# Altium schematic symbol library Connectors.SchLib: 60 symbols (part 2 of 3)
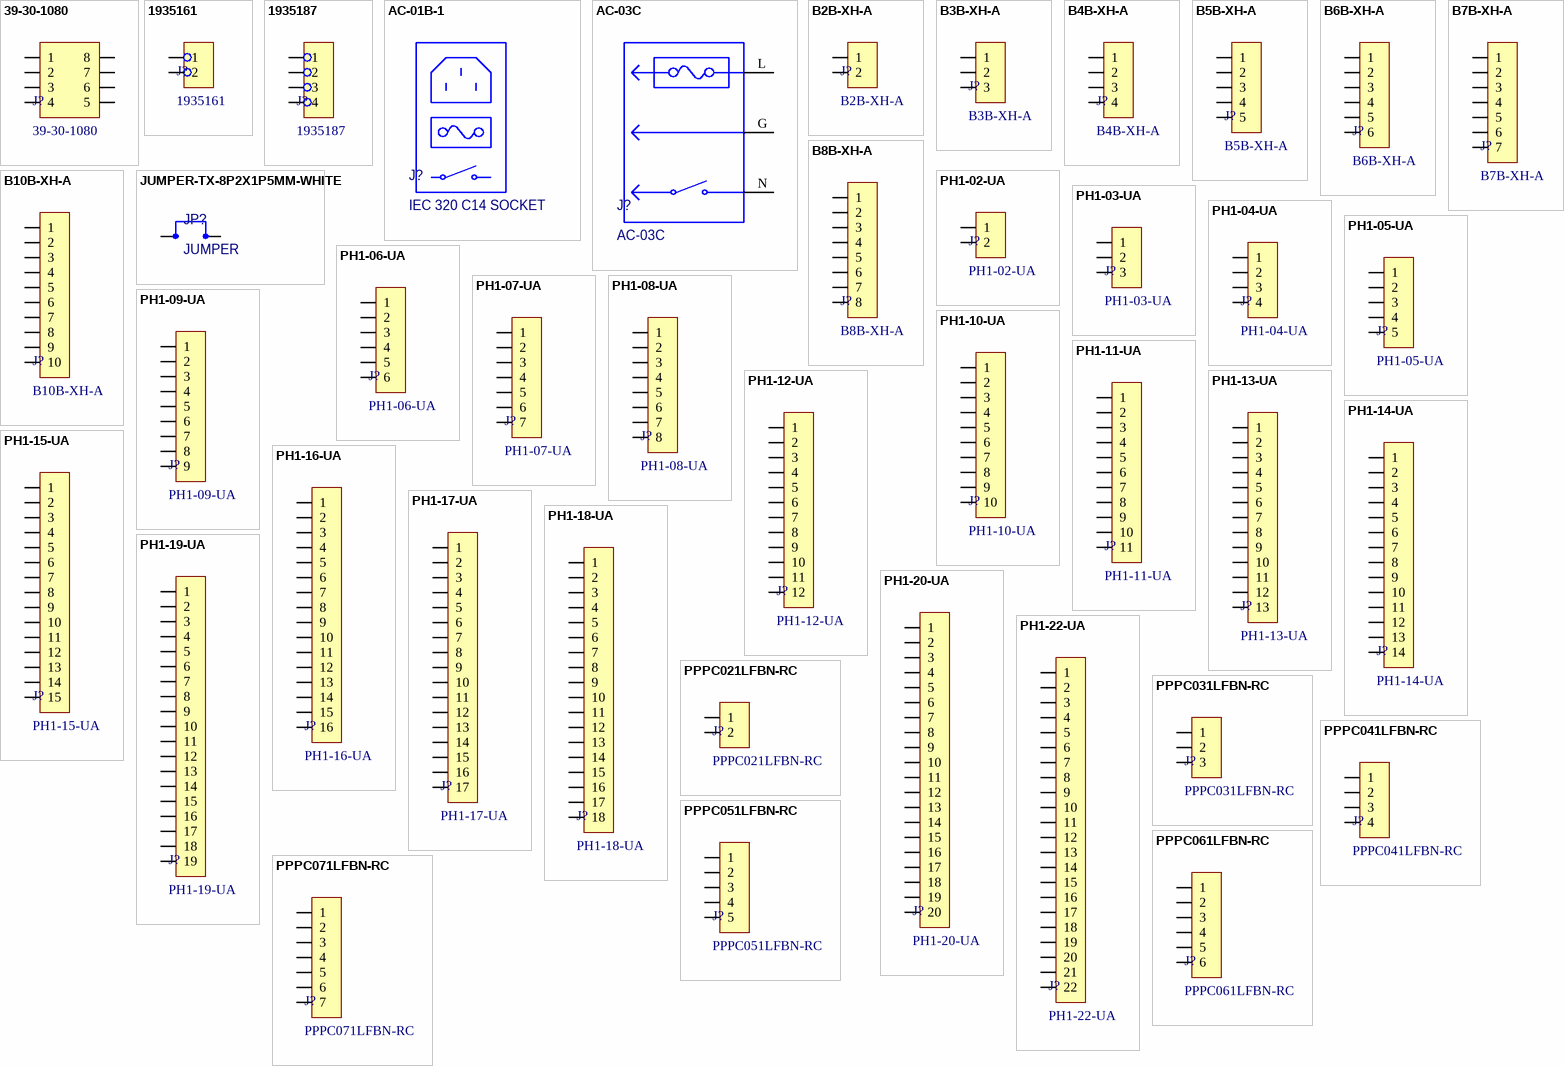
[diagram p2: symbols 39-30-1080 to PPPC071LFBN-RC]

## PH1-17-UA
designator J?
CONN HEADER VERT 17POS 2.54MM; Manufacturer: Adam Tech; Contact Resistance: 20mΩ; Current Rating: 3A; Insulation Resistance: 5GΩ; Supplier: DigiKey; Supplier Part Number: 2057-PH1-17-UA-ND; Manufacturer Part Number: PH1-17-UA; RoHS: Compliant; Category: Card Edge Connectors; Stock: 830; Pricing: 1=0.21, 10=0.182, 100=0.1546, 500=0.13796 (USD); Contact Gender: Male; Contact Material: Brass; Lifecycle Status: Production; Pins: 17; Number of Rows: 1; REACH SVHC: Yes; Schedule B: 8536694040, 8536694040|8536694040|8536694040|8536694040|8536694040; Terminal Pitch: 2.54mm; ComponentLink1URL: https://datasheet.octopart.com:443/PH1-17-UA-Adam-Tech-datasheet-21182886.pdf?src-supplier=IHS; ComponentLink1Description: https://datasheet.octopart.com:443/PH1-17-UA-Adam-Tech-datasheet-21182886.pdf?src-supplier=IHS; ComponentLink2URL: https://datasheet.octopart.com:443/PH1-17-UA-Adam-Tech-datasheet-189096092.pdf?src-supplier=Master+Electronics; ComponentLink2Description: https://datasheet.octopart.com:443/PH1-17-UA-Adam-Tech-datasheet-189096092.pdf?src-supplier=Master+Electronics; ComponentLink3URL: http://sigma.octopart.com:80/reach_statement/Adam-Tech-company-23.pdf?src-supplier=Compliance+Statements; ComponentLink3Description: http://sigma.octopart.com:80/reach_statement/Adam-Tech-company-23.pdf?src-supplier=Compliance+Statements; ComponentLink4URL: http://sigma.octopart.com:80/rohs_statement/Adam-Tech-company-22.pdf?src-supplier=Compliance+Statements; ComponentLink4Description: http://sigma.octopart.com:80/rohs_statement/Adam-Tech-company-22.pdf?src-supplier=Compliance+Statements
footprint CON_HDR_MAL_VERT_17P_2P54_PITCH
pins: 1, 2, 3, 4, 5, 6, 7, 8, 9, 10, 11, 12, 13, 14, 15, 16, 17

## PH1-18-UA
designator J?
CONN HEADER VERT 18POS 2.54MM; Manufacturer: Adam Tech; Contact Resistance: 20mΩ; Current Rating: 3A; Insulation Resistance: 5GΩ; Supplier: DigiKey; Supplier Part Number: 2057-PH1-18-UA-ND; Manufacturer Part Number: PH1-18-UA; RoHS: Compliant; Category: Card Edge Connectors; Stock: 2668; Pricing: 1=0.23, 10=0.194, 100=0.1648, 500=0.14712, 1000=0.14008, 5000=0.12503, 10000=0.11906 (USD); Contact Gender: Male; Contact Material: Brass; Lifecycle Status: Production; Pins: 18; Number of Rows: 1; REACH SVHC: Yes; Schedule B: 8536694040; Terminal Pitch: 2.54mm; ComponentLink1URL: https://datasheet.octopart.com:443/PH1-18-UA-Adam-Tech-datasheet-21182886.pdf?src-supplier=IHS; ComponentLink1Description: https://datasheet.octopart.com:443/PH1-18-UA-Adam-Tech-datasheet-21182886.pdf?src-supplier=IHS; ComponentLink2URL: https://datasheet.octopart.com:443/PH1-18-UA-Adam-Tech-datasheet-189096092.pdf?src-supplier=Master+Electronics; ComponentLink2Description: https://datasheet.octopart.com:443/PH1-18-UA-Adam-Tech-datasheet-189096092.pdf?src-supplier=Master+Electronics; ComponentLink3URL: http://sigma.octopart.com:80/reach_statement/Adam-Tech-company-23.pdf?src-supplier=Compliance+Statements; ComponentLink3Description: http://sigma.octopart.com:80/reach_statement/Adam-Tech-company-23.pdf?src-supplier=Compliance+Statements; ComponentLink4URL: http://sigma.octopart.com:80/rohs_statement/Adam-Tech-company-22.pdf?src-supplier=Compliance+Statements; ComponentLink4Description: http://sigma.octopart.com:80/rohs_statement/Adam-Tech-company-22.pdf?src-supplier=Compliance+Statements
footprint CON_HDR_MAL_VERT_18P_2P54_PITCH
pins: 1, 2, 3, 4, 5, 6, 7, 8, 9, 10, 11, 12, 13, 14, 15, 16, 17, 18

## PH1-19-UA
designator J?
CONN HEADER VERT 19POS 2.54MM; Manufacturer: Adam Tech; Contact Resistance: 20mΩ; Current Rating: 3A; Insulation Resistance: 5GΩ; Supplier: DigiKey; Supplier Part Number: 2057-PH1-19-UA-ND; Manufacturer Part Number: PH1-19-UA; RoHS: Compliant; Category: Card Edge Connectors; Stock: 619; Pricing: 1=0.24, 10=0.206, 100=0.1747, 500=0.15586, 1000=0.14841, 5000=0.13247, 10000=0.12614 (USD); Contact Gender: Male; Contact Material: Brass; Lifecycle Status: Production; Pins: 19; Number of Rows: 1; REACH SVHC: Yes; Terminal Pitch: 2.54mm; ComponentLink1URL: https://datasheet.octopart.com:443/PH1-19-UA-Adam-Tech-datasheet-21182886.pdf?src-supplier=IHS; ComponentLink1Description: https://datasheet.octopart.com:443/PH1-19-UA-Adam-Tech-datasheet-21182886.pdf?src-supplier=IHS; ComponentLink2URL: https://datasheet.octopart.com:443/PH1-19-UA-Adam-Tech-datasheet-189096092.pdf?src-supplier=Master+Electronics; ComponentLink2Description: https://datasheet.octopart.com:443/PH1-19-UA-Adam-Tech-datasheet-189096092.pdf?src-supplier=Master+Electronics; ComponentLink3URL: http://sigma.octopart.com:80/reach_statement/Adam-Tech-company-23.pdf?src-supplier=Compliance+Statements; ComponentLink3Description: http://sigma.octopart.com:80/reach_statement/Adam-Tech-company-23.pdf?src-supplier=Compliance+Statements; ComponentLink4URL: http://sigma.octopart.com:80/rohs_statement/Adam-Tech-company-22.pdf?src-supplier=Compliance+Statements; ComponentLink4Description: http://sigma.octopart.com:80/rohs_statement/Adam-Tech-company-22.pdf?src-supplier=Compliance+Statements
footprint CON_HDR_MAL_VERT_19P_2P54_PITCH
pins: 1, 2, 3, 4, 5, 6, 7, 8, 9, 10, 11, 12, 13, 14, 15, 16, 17, 18, 19

## PH1-20-UA
designator J?
CONN HEADER VERT 20POS 2.54MM; Manufacturer: Adam Tech; Contact Resistance: 20mΩ; Current Rating: 3A; Insulation Resistance: 5GΩ; Number of Positions: 20; Supplier: DigiKey; Supplier Part Number: 2057-PH1-20-UA-ND; Manufacturer Part Number: PH1-20-UA; RoHS: Compliant; Category: Card Edge Connectors; Stock: 9766; Pricing: 1=0.35, 10=0.301, 100=0.2559, 500=0.22838, 1000=0.21746, 5000=0.19411, 10000=0.18484 (USD); Contact Gender: Male; Contact Material: Brass; Lead Free: Lead Free; Lifecycle Status: Production; Pins: 20; Number of Rows: 1; Pitch: 2.54mm; REACH SVHC: Yes; Terminal Pitch: 2.54mm; Termination: PCB; ComponentLink1URL: https://datasheet.octopart.com:443/PH1-20-UA-Adam-Tech-datasheet-21182886.pdf?src-supplier=IHS; ComponentLink1Description: https://datasheet.octopart.com:443/PH1-20-UA-Adam-Tech-datasheet-21182886.pdf?src-supplier=IHS; ComponentLink2URL: https://datasheet.octopart.com:443/PH1-20-UA-Adam-Tech-datasheet-12510360.pdf?src-supplier=Future+Electronics; ComponentLink2Description: https://datasheet.octopart.com:443/PH1-20-UA-Adam-Tech-datasheet-12510360.pdf?src-supplier=Future+Electronics; ComponentLink3URL: https://datasheet.octopart.com:443/PH1-20-UA-Adam-Tech-datasheet-502038.pdf?src-supplier=Future+Electronics; ComponentLink3Description: https://datasheet.octopart.com:443/PH1-20-UA-Adam-Tech-datasheet-502038.pdf?src-supplier=Future+Electronics; ComponentLink4URL: https://datasheet.octopart.com:443/PH1-20-UA-Adam-Tech-datasheet-189096092.pdf?src-supplier=Master+Electronics; ComponentLink4Description: https://datasheet.octopart.com:443/PH1-20-UA-Adam-Tech-datasheet-189096092.pdf?src-supplier=Master+Electronics; ComponentLink5URL: http://sigma.octopart.com:80/reach_statement/Adam-Tech-company-23.pdf?src-supplier=Compliance+Statements; ComponentLink5Description: http://sigma.octopart.com:80/reach_statement/Adam-Tech-company-23.pdf?src-supplier=Compliance+Statements; ComponentLink6URL: http://sigma.octopart.com:80/rohs_statement/Adam-Tech-company-22.pdf?src-supplier=Compliance+Statements; ComponentLink6Description: http://sigma.octopart.com:80/rohs_statement/Adam-Tech-company-22.pdf?src-supplier=Compliance+Statements
footprint CON_HDR_MAL_VERT_20P_2P54_PITCH
pins: 1, 2, 3, 4, 5, 6, 7, 8, 9, 10, 11, 12, 13, 14, 15, 16, 17, 18, 19, 20

## PH1-22-UA
designator J?
CONN HEADER VERT 22POS 2.54MM; Manufacturer: Adam Tech; Supplier: Digikey; Supplier Part Number: 2057-PH1-22-UA-ND; Manufacturer Part Number: PH1-22-UA
footprint CON_HDR_MAL_VERT_22P_2P54_PITCH
pins: 1, 2, 3, 4, 5, 6, 7, 8, 9, 10, 11, 12, 13, 14, 15, 16, 17, 18, 19, 20, 21, 22

## PPPC021LFBN-RC
designator J?
CONN HDR 2POS 0.1 GOLD PCB; Manufacturer: Sullins; Connector Type: Header, Socket; Current Rating: 3A; Dielectric Material: Polyester; Number of Contacts: 2; Pitch: 2.54mm; Voltage Rating: 250V; Supplier: DigiKey; Supplier Part Number: S7035-ND; Manufacturer Part Number: PPPC021LFBN-RC; RoHS: Compliant; Category: Card Edge Connectors; Stock: 33065; Pricing: 1=0.24, 10=0.206, 100=0.1751, 500=0.15622, 1000=0.14876, 5000=0.13278, 10000=0.12644 (USD); Color: Black; Contact Gender: Female; Contact Material: Gold, Nickel; Contact Plating: Gold; Height: 8.7mm; Housing Material: Plastic; Lead Free: Lead Free; Length: 5.58mm; Lifecycle Status: Production; Max Operating Temperature: 105°C; Min Operating Temperature: -40°C; Mounting Technology: Through Hole; Pins: 2; Number of Positions: 2; Number of Rows: 1; Packaging: Bulk; REACH SVHC: Yes; Terminal Pitch: 2.54mm; Termination: Solder; Width: 2.5mm; ComponentLink1URL: https://datasheet.octopart.com:443/PPPC021LFBN-RC-Sullins-datasheet-138810743.pdf?src-supplier=IHS; ComponentLink1Description: https://datasheet.octopart.com:443/PPPC021LFBN-RC-Sullins-datasheet-138810743.pdf?src-supplier=IHS; ComponentLink2URL: https://datasheet.octopart.com:443/PPPC021LFBN-RC-Sullins-datasheet-83216130.pdf?src-supplier=Upverter; ComponentLink2Description: https://datasheet.octopart.com:443/PPPC021LFBN-RC-Sullins-datasheet-83216130.pdf?src-supplier=Upverter; ComponentLink3URL: https://datasheet.octopart.com:443/PPPC021LFBN-RC-Sullins-datasheet-41308905.pdf?src-supplier=Future+Electronics; ComponentLink3Description: https://datasheet.octopart.com:443/PPPC021LFBN-RC-Sullins-datasheet-41308905.pdf?src-supplier=Future+Electronics; ComponentLink4URL: https://datasheet.octopart.com:443/PPPC021LFBN-RC-Sullins-datasheet-12511165.pdf?src-supplier=Future+Electronics; ComponentLink4Description: https://datasheet.octopart.com:443/PPPC021LFBN-RC-Sullins-datasheet-12511165.pdf?src-supplier=Future+Electronics
footprint CON_HDR_FEM_VERT_2P_2P54_PITCH
pins: 1, 2

## PPPC031LFBN-RC
designator J?
CONN HDR 3POS 0.1 GOLD PCB; Manufacturer: Sullins; Connector Type: Header, Socket; Current Rating: 3A; Dielectric Material: Polyester; Number of Contacts: 3; Pitch: 2.54mm; Voltage Rating: 250V; Supplier: DigiKey; Supplier Part Number: S7036-ND; Manufacturer Part Number: PPPC031LFBN-RC; RoHS: Compliant; Category: Card Edge Connectors; Stock: 27245; Pricing: 1=0.31, 10=0.264, 100=0.2242, 500=0.20012, 1000=0.19056, 5000=0.17009, 10000=0.16197 (USD); Color: Black; Contact Gender: Female; Contact Material: Gold, Nickel; Contact Plating: Gold; Height: 8.7mm; Housing Material: Plastic; Lead Free: Lead Free; Length: 8.12mm; Lifecycle Status: Production; Max Operating Temperature: 105°C; Min Operating Temperature: -40°C; Mounting Technology: Through Hole; Pins: 3; Number of Positions: 3; Number of Rows: 1; Packaging: Bulk; REACH SVHC: Yes; Terminal Pitch: 2.54mm; Termination: Solder; Width: 2.5mm; ComponentLink1URL: https://datasheet.octopart.com:443/PPPC031LFBN-RC-Sullins-datasheet-138810743.pdf?src-supplier=IHS; ComponentLink1Description: https://datasheet.octopart.com:443/PPPC031LFBN-RC-Sullins-datasheet-138810743.pdf?src-supplier=IHS; ComponentLink2URL: https://sigma.octopart.com:443/83216130/technical_drawing/Sullins-PPPC031LFBN-RC.pdf?src-supplier=Upverter; ComponentLink2Description: https://sigma.octopart.com:443/83216130/technical_drawing/Sullins-PPPC031LFBN-RC.pdf?src-supplier=Upverter; ComponentLink3URL: https://datasheet.octopart.com:443/PPPC031LFBN-RC-Sullins-datasheet-41308905.pdf?src-supplier=Future+Electronics; ComponentLink3Description: https://datasheet.octopart.com:443/PPPC031LFBN-RC-Sullins-datasheet-41308905.pdf?src-supplier=Future+Electronics; ComponentLink4URL: https://datasheet.octopart.com:443/PPPC031LFBN-RC-Sullins-datasheet-12511165.pdf?src-supplier=Future+Electronics; ComponentLink4Description: https://datasheet.octopart.com:443/PPPC031LFBN-RC-Sullins-datasheet-12511165.pdf?src-supplier=Future+Electronics
footprint CON_HDR_FEM_VERT_3P_2P54_PITCH
pins: 1, 2, 3

## PPPC041LFBN-RC
designator J?
CONN HDR 4POS 0.1 GOLD PCB; Manufacturer: Sullins; Connector Type: Header, Socket; Current Rating: 3A; Dielectric Material: Polyester; Number of Positions: 4; Pitch: 2.54mm; Supplier: DigiKey; Supplier Part Number: S7037-ND; Manufacturer Part Number: PPPC041LFBN-RC; RoHS: Compliant; Category: Card Edge Connectors; Stock: 30890; Pricing: 1=0.38, 10=0.321, 100=0.2724, 500=0.24312, 1000=0.23151, 5000=0.20664, 10000=0.19678 (USD); Color: Black; Contact Gender: Female; Contact Material: Bronze; Contact Plating: Gold; Height: 8.5mm; Housing Material: Plastic; Lead Free: Lead Free; Length: 10.7mm; Lifecycle Status: Production; Mounting Technology: Through Hole; Pins: 4; Number of Rows: 1; Packaging: Bulk; REACH SVHC: Yes; Terminal Pitch: 2.54mm; Termination: Solder; Width: 2.5mm; ComponentLink1URL: https://datasheet.octopart.com:443/PPPC041LFBN-RC-Sullins-datasheet-138810743.pdf?src-supplier=IHS; ComponentLink1Description: https://datasheet.octopart.com:443/PPPC041LFBN-RC-Sullins-datasheet-138810743.pdf?src-supplier=IHS; ComponentLink2URL: https://datasheet.octopart.com:443/PPPC041LFBN-RC-Sullins-datasheet-41308905.pdf?src-supplier=Future+Electronics; ComponentLink2Description: https://datasheet.octopart.com:443/PPPC041LFBN-RC-Sullins-datasheet-41308905.pdf?src-supplier=Future+Electronics; ComponentLink3URL: https://datasheet.octopart.com:443/PPPC041LFBN-RC-Sullins-datasheet-12511165.pdf?src-supplier=Future+Electronics; ComponentLink3Description: https://datasheet.octopart.com:443/PPPC041LFBN-RC-Sullins-datasheet-12511165.pdf?src-supplier=Future+Electronics
footprint CON_HDR_FEM_VERT_4P_2P54_PITCH
pins: 1, 2, 3, 4

## PPPC051LFBN-RC
designator J?
CONN HDR 5POS 0.1 GOLD PCB; Manufacturer: Sullins; Connector Type: Header, Socket; Current Rating: 3A; Dielectric Material: Polyester; Number of Positions: 5; Pitch: 2.54mm; Supplier: DigiKey; Supplier Part Number: S7038-ND; Manufacturer Part Number: PPPC051LFBN-RC; RoHS: Compliant; Category: Card Edge Connectors; Stock: 38154; Pricing: 1=0.39, 10=0.335, 100=0.2843, 500=0.25376, 1000=0.24163, 5000=0.21568, 10000=0.20539 (USD); Color: Black; Contact Gender: Female; Contact Material: Bronze; Contact Plating: Gold; Height: 8.5mm; Housing Material: Plastic; Lead Free: Lead Free; Length: 13.2mm; Lifecycle Status: Production; Mounting Technology: Through Hole; Pins: 5; Number of Rows: 1; Packaging: Bulk; REACH SVHC: Yes; Terminal Pitch: 2.54mm; Termination: Solder; Width: 2.5mm; ComponentLink1URL: https://datasheet.octopart.com:443/PPPC051LFBN-RC-Sullins-datasheet-138810743.pdf?src-supplier=IHS; ComponentLink1Description: https://datasheet.octopart.com:443/PPPC051LFBN-RC-Sullins-datasheet-138810743.pdf?src-supplier=IHS; ComponentLink2URL: https://datasheet.octopart.com:443/PPPC051LFBN-RC-Sullins-datasheet-41308905.pdf?src-supplier=Future+Electronics; ComponentLink2Description: https://datasheet.octopart.com:443/PPPC051LFBN-RC-Sullins-datasheet-41308905.pdf?src-supplier=Future+Electronics; ComponentLink3URL: https://datasheet.octopart.com:443/PPPC051LFBN-RC-Sullins-datasheet-12511165.pdf?src-supplier=Future+Electronics; ComponentLink3Description: https://datasheet.octopart.com:443/PPPC051LFBN-RC-Sullins-datasheet-12511165.pdf?src-supplier=Future+Electronics
footprint CON_HDR_FEM_VERT_5P_2P54_PITCH
pins: 1, 2, 3, 4, 5

## PPPC061LFBN-RC
designator J?
CONN HDR 6POS 0.1 GOLD PCB; Manufacturer: Sullins; Connector Type: Header, Socket; Current Rating: 3A; Dielectric Material: Polyester; Number of Contacts: 6; Pitch: 2.54mm; Voltage Rating: 250V; Supplier: DigiKey; Supplier Part Number: S7039-ND; Manufacturer Part Number: PPPC061LFBN-RC; RoHS: Compliant; Category: Card Edge Connectors; Stock: 19179; Pricing: 1=0.43, 10=0.363, 100=0.308, 500=0.2749, 1000=0.26177, 5000=0.23366, 10000=0.22251 (USD); Color: Black; Contact Gender: Female; Contact Material: Gold, Nickel; Contact Plating: Gold; Height: 8.7mm; Housing Material: Plastic; Lead Free: Lead Free; Length: 15.7mm; Lifecycle Status: Production; Max Operating Temperature: 105°C; Min Operating Temperature: -40°C; Mounting Technology: Through Hole; Pins: 6; Number of Positions: 6; Number of Rows: 1; Packaging: Bulk; REACH SVHC: Yes; Terminal Pitch: 2.54mm; Termination: Solder; Width: 2.5mm; ComponentLink1URL: https://datasheet.octopart.com:443/PPPC061LFBN-RC-Sullins-datasheet-138810743.pdf?src-supplier=IHS; ComponentLink1Description: https://datasheet.octopart.com:443/PPPC061LFBN-RC-Sullins-datasheet-138810743.pdf?src-supplier=IHS; ComponentLink2URL: https://sigma.octopart.com:443/83216130/technical_drawing/Sullins-PPPC061LFBN-RC.pdf?src-supplier=Upverter; ComponentLink2Description: https://sigma.octopart.com:443/83216130/technical_drawing/Sullins-PPPC061LFBN-RC.pdf?src-supplier=Upverter; ComponentLink3URL: https://datasheet.octopart.com:443/PPPC061LFBN-RC-Sullins-datasheet-47864048.pdf?src-supplier=Future+Electronics; ComponentLink3Description: https://datasheet.octopart.com:443/PPPC061LFBN-RC-Sullins-datasheet-47864048.pdf?src-supplier=Future+Electronics
footprint CON_HDR_FEM_VERT_6P_2P54_PITCH
pins: 1, 2, 3, 4, 5, 6

## PPPC071LFBN-RC
designator J?
CONN HDR 7POS 0.1 GOLD PCB; Manufacturer: Sullins; Connector Type: Header, Socket; Current Rating: 3A; Dielectric Material: Polyester; Number of Positions: 7; Pitch: 2.54mm; Supplier: DigiKey; Supplier Part Number: S7040-ND; Manufacturer Part Number: PPPC071LFBN-RC; RoHS: Compliant; Category: Card Edge Connectors; Stock: 22423; Pricing: 1=0.48, 10=0.412, 100=0.3499, 500=0.3123, 1000=0.29738, 5000=0.26545, 10000=0.25279 (USD); Color: Black; Contact Gender: Female; Contact Material: Bronze; Contact Plating: Gold; Height: 8.5mm; Housing Material: Plastic; Lead Free: Lead Free; Lead Pitch: 2.54mm; Length: 18.3mm; Lifecycle Status: Production; Max Operating Temperature: 105°C; Min Operating Temperature: -40°C; Mounting Technology: Through Hole; Pins: 7; Number of Rows: 1; Packaging: Bulk; REACH SVHC: Yes; Terminal Pitch: 2.54mm; Termination: Solder; Width: 2.5mm; ComponentLink1URL: https://datasheet.octopart.com:443/PPPC071LFBN-RC-Sullins-datasheet-138810743.pdf?src-supplier=IHS; ComponentLink1Description: https://datasheet.octopart.com:443/PPPC071LFBN-RC-Sullins-datasheet-138810743.pdf?src-supplier=IHS; ComponentLink2URL: https://datasheet.octopart.com:443/PPPC071LFBN-RC-Sullins-datasheet-32035511.pdf?src-supplier=Upverter; ComponentLink2Description: https://datasheet.octopart.com:443/PPPC071LFBN-RC-Sullins-datasheet-32035511.pdf?src-supplier=Upverter
footprint CON_HDR_FEM_VERT_7P_2P54_PITCH
pins: 1, 2, 3, 4, 5, 6, 7

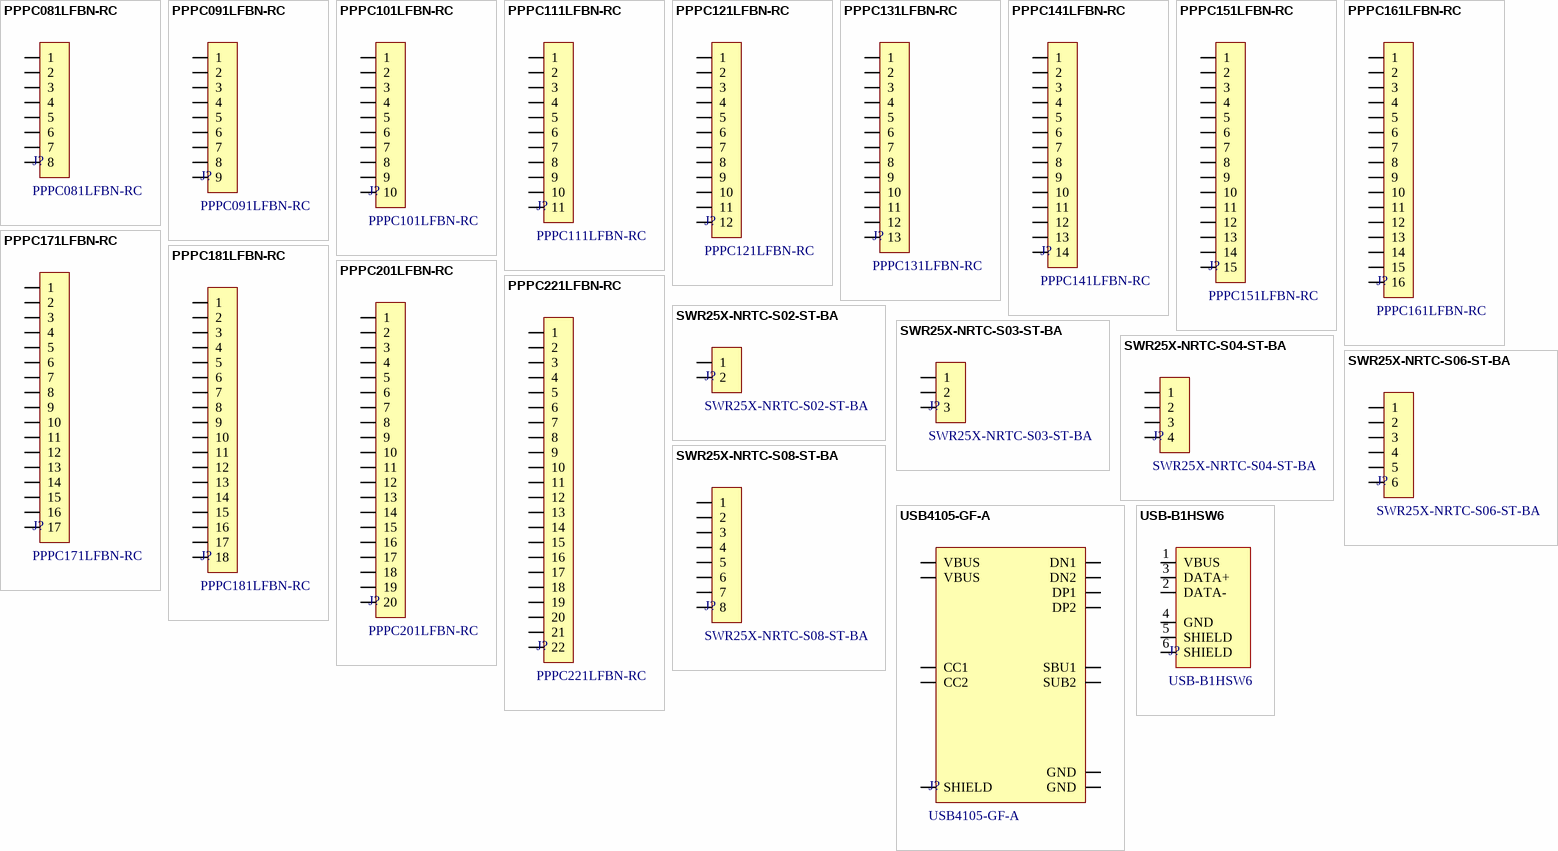
[diagram p1: symbols PPPC081LFBN-RC to USB-B1HSW6]

## PPPC081LFBN-RC
designator J?
CONN HDR 8POS 0.1 GOLD PCB; Manufacturer: Sullins; Connector Type: Header, Socket; Current Rating: 3A; Dielectric Material: Polyester; Number of Contacts: 8; Pitch: 2.54mm; Voltage Rating: 250V; Supplier: DigiKey; Supplier Part Number: S7041-ND; Manufacturer Part Number: PPPC081LFBN-RC; RoHS: Compliant; Category: Headers and Wire Housings; Stock: 28483; Pricing: 1=0.53, 10=0.449, 100=0.3814, 500=0.34044, 1000=0.32417, 5000=0.28937, 10000=0.27556 (USD); Case/Package: TO-252-3; Color: Black; Contact Gender: Female; Contact Material: Gold, Nickel; Contact Plating: Gold; Height: 2.39mm; Housing Material: Plastic; Lead Free: Lead Free; Length: 6.73mm; Lifecycle Status: Production; Max Operating Temperature: 105°C; Min Operating Temperature: -40°C; Mounting Technology: Surface Mount; Pins: 8; Number of Positions: 8; Number of Rows: 1; Packaging: Tape and Reel; Radiation Hardening: No; REACH SVHC: Yes; Terminal Pitch: 2.54mm; Termination: Solder; Width: 6.22mm; ComponentLink1URL: https://datasheet.octopart.com:443/PPPC081LFBN-RC-Sullins-datasheet-138810743.pdf?src-supplier=IHS; ComponentLink1Description: https://datasheet.octopart.com:443/PPPC081LFBN-RC-Sullins-datasheet-138810743.pdf?src-supplier=IHS; ComponentLink2URL: https://datasheet.octopart.com:443/PPPC081LFBN-RC-Sullins-datasheet-41308905.pdf?src-supplier=Upverter; ComponentLink2Description: https://datasheet.octopart.com:443/PPPC081LFBN-RC-Sullins-datasheet-41308905.pdf?src-supplier=Upverter; ComponentLink3URL: https://sigma.octopart.com:443/83216130/technical_drawing/Sullins-PPPC081LFBN-RC.pdf?src-supplier=Upverter; ComponentLink3Description: https://sigma.octopart.com:443/83216130/technical_drawing/Sullins-PPPC081LFBN-RC.pdf?src-supplier=Upverter; ComponentLink4URL: https://datasheet.octopart.com:443/PPPC081LFBN-RC-Sullins-datasheet-12511165.pdf?src-supplier=Future+Electronics; ComponentLink4Description: https://datasheet.octopart.com:443/PPPC081LFBN-RC-Sullins-datasheet-12511165.pdf?src-supplier=Future+Electronics
footprint CON_HDR_FEM_VERT_8P_2P54_PITCH
pins: 1, 2, 3, 4, 5, 6, 7, 8

## PPPC091LFBN-RC
designator J?
CONN HDR 9POS 0.1 GOLD PCB; Manufacturer: Sullins; Connector Type: Header, Socket; Current Rating: 3A; Dielectric Material: Polyester; Number of Contacts: 9; Pitch: 2.54mm; Voltage Rating: 250V; Supplier: DigiKey; Supplier Part Number: S7042-ND; Manufacturer Part Number: PPPC091LFBN-RC; RoHS: Compliant; Category: Card Edge Connectors; Stock: 17765; Pricing: 1=0.58, 10=0.49, 100=0.416, 500=0.37132, 1000=0.35358, 5000=0.31562, 10000=0.30163 (USD); Color: Black; Contact Gender: Female; Contact Material: Gold, Nickel; Contact Plating: Gold; Height: 8.7mm; Housing Material: Plastic; Lead Free: Lead Free; Length: 23.4mm; Lifecycle Status: Production; Max Operating Temperature: 105°C; Min Operating Temperature: -40°C; Mounting Technology: Through Hole; Pins: 9; Number of Positions: 9; Number of Rows: 1; Packaging: Bulk; REACH SVHC: Yes; Terminal Pitch: 2.54mm; Termination: Solder; Width: 2.5mm; ComponentLink1URL: https://datasheet.octopart.com:443/PPPC091LFBN-RC-Sullins-datasheet-138810743.pdf?src-supplier=IHS; ComponentLink1Description: https://datasheet.octopart.com:443/PPPC091LFBN-RC-Sullins-datasheet-138810743.pdf?src-supplier=IHS; ComponentLink2URL: https://sigma.octopart.com:443/83216130/technical_drawing/Sullins-PPPC091LFBN-RC.pdf?src-supplier=Future+Electronics; ComponentLink2Description: https://sigma.octopart.com:443/83216130/technical_drawing/Sullins-PPPC091LFBN-RC.pdf?src-supplier=Future+Electronics
footprint CON_HDR_FEM_VERT_9P_2P54_PITCH
pins: 1, 2, 3, 4, 5, 6, 7, 8, 9

## PPPC101LFBN-RC
designator J?
CONN HDR 10POS 0.1 GOLD PCB; Manufacturer: Sullins; Connector Type: Header, Socket; Current Rating: 3A; Dielectric Material: Polyester; Number of Contacts: 10; Pitch: 2.54mm; Voltage Rating: 250V; Supplier: DigiKey; Supplier Part Number: S7043-ND; Manufacturer Part Number: PPPC101LFBN-RC; RoHS: Compliant; Category: Card Edge Connectors; Stock: 25256; Pricing: 1=0.58, 10=0.493, 100=0.4193, 500=0.37422, 1000=0.35634, 5000=0.31808, 10000=0.3042 (USD); Color: Black; Contact Gender: Female; Contact Material: Gold, Nickel; Contact Plating: Gold; Height: 8.7mm; Housing Material: Plastic; Lead Free: Lead Free; Length: 25.9mm; Lifecycle Status: Production; Max Operating Temperature: 105°C; Min Operating Temperature: -40°C; Mounting Technology: Through Hole; Pins: 10; Number of Positions: 10; Number of Rows: 1; Packaging: Bulk; REACH SVHC: Yes; Terminal Pitch: 2.54mm; Termination: Solder; Width: 2.5mm; ComponentLink1URL: https://datasheet.octopart.com:443/PPPC101LFBN-RC-Sullins-datasheet-138810743.pdf?src-supplier=IHS; ComponentLink1Description: https://datasheet.octopart.com:443/PPPC101LFBN-RC-Sullins-datasheet-138810743.pdf?src-supplier=IHS; ComponentLink2URL: https://sigma.octopart.com:443/83216130/technical_drawing/Sullins-PPPC101LFBN-RC.pdf?src-supplier=Upverter; ComponentLink2Description: https://sigma.octopart.com:443/83216130/technical_drawing/Sullins-PPPC101LFBN-RC.pdf?src-supplier=Upverter; ComponentLink3URL: https://datasheet.octopart.com:443/PPPC101LFBN-RC-Sullins-datasheet-41308905.pdf?src-supplier=Future+Electronics; ComponentLink3Description: https://datasheet.octopart.com:443/PPPC101LFBN-RC-Sullins-datasheet-41308905.pdf?src-supplier=Future+Electronics; ComponentLink4URL: https://datasheet.octopart.com:443/PPPC101LFBN-RC-Sullins-datasheet-12511165.pdf?src-supplier=Future+Electronics; ComponentLink4Description: https://datasheet.octopart.com:443/PPPC101LFBN-RC-Sullins-datasheet-12511165.pdf?src-supplier=Future+Electronics
footprint CON_HDR_FEM_VERT_10P_2P54_PITCH
pins: 1, 2, 3, 4, 5, 6, 7, 8, 9, 10

## PPPC111LFBN-RC
designator J?
CONN HDR 11POS 0.1 GOLD PCB; Manufacturer: Sullins; Connector Type: Header, Socket; Current Rating: 3A; Dielectric Material: Polyester; Number of Positions: 11; Pitch: 2.54mm; Supplier: DigiKey; Supplier Part Number: S7044-ND; Manufacturer Part Number: PPPC111LFBN-RC; RoHS: Compliant; Category: Card Edge Connectors; Stock: 2469; Pricing: 1=0.7, 10=0.591, 100=0.5021, 500=0.44812, 1000=0.42673, 5000=0.38092, 10000=0.3705 (USD); Color: Black; Contact Gender: Female; Contact Material: Bronze; Contact Plating: Gold; Height: 8.5mm; Housing Material: Plastic; Lead Free: Lead Free; Length: 28.4mm; Lifecycle Status: Production; Mounting Technology: Through Hole; Pins: 11; Number of Rows: 1; Packaging: Bulk; REACH SVHC: Yes; Terminal Pitch: 2.54mm; Termination: Solder; Width: 2.5mm; ComponentLink1URL: https://datasheet.octopart.com:443/PPPC111LFBN-RC-Sullins-datasheet-138810743.pdf?src-supplier=IHS; ComponentLink1Description: https://datasheet.octopart.com:443/PPPC111LFBN-RC-Sullins-datasheet-138810743.pdf?src-supplier=IHS
footprint CON_HDR_FEM_VERT_11P_2P54_PITCH
pins: 1, 2, 3, 4, 5, 6, 7, 8, 9, 10, 11

## PPPC121LFBN-RC
designator J?
CONN HDR 12POS 0.1 GOLD PCB; Manufacturer: Sullins; Connector Type: Header, Socket; Current Rating: 3A; Dielectric Material: Polyester; Number of Positions: 12; Pitch: 2.54mm; Supplier: DigiKey; Supplier Part Number: S7045-ND; Manufacturer Part Number: PPPC121LFBN-RC; RoHS: Compliant; Category: Card Edge Connectors; Stock: 16843; Pricing: 1=0.69, 10=0.587, 100=0.4991, 500=0.44542, 1000=0.42414, 5000=0.37861, 10000=0.36804 (USD); Color: Black; Contact Gender: Female; Contact Material: Bronze; Contact Plating: Gold; Height: 8.5mm; Housing Material: Plastic; Lead Free: Lead Free; Length: 31mm; Lifecycle Status: Production; Max Operating Temperature: 105°C; Min Operating Temperature: -40°C; Mounting Technology: Through Hole; Pins: 12; Number of Rows: 1; Packaging: Bulk; REACH SVHC: Yes; Terminal Pitch: 2.54mm; Termination: Solder; Width: 2.5mm; ComponentLink1URL: https://datasheet.octopart.com:443/PPPC121LFBN-RC-Sullins-datasheet-138810743.pdf?src-supplier=IHS; ComponentLink1Description: https://datasheet.octopart.com:443/PPPC121LFBN-RC-Sullins-datasheet-138810743.pdf?src-supplier=IHS; ComponentLink2URL: https://datasheet.octopart.com:443/PPPC121LFBN-RC-Sullins-datasheet-47864048.pdf?src-supplier=Upverter; ComponentLink2Description: https://datasheet.octopart.com:443/PPPC121LFBN-RC-Sullins-datasheet-47864048.pdf?src-supplier=Upverter; ComponentLink3URL: https://datasheet.octopart.com:443/PPPC121LFBN-RC-Sullins-datasheet-41308905.pdf?src-supplier=Future+Electronics; ComponentLink3Description: https://datasheet.octopart.com:443/PPPC121LFBN-RC-Sullins-datasheet-41308905.pdf?src-supplier=Future+Electronics; ComponentLink4URL: https://datasheet.octopart.com:443/PPPC121LFBN-RC-Sullins-datasheet-12511165.pdf?src-supplier=Future+Electronics; ComponentLink4Description: https://datasheet.octopart.com:443/PPPC121LFBN-RC-Sullins-datasheet-12511165.pdf?src-supplier=Future+Electronics
footprint CON_HDR_FEM_VERT_12P_2P54_PITCH
pins: 1, 2, 3, 4, 5, 6, 7, 8, 9, 10, 11, 12

## PPPC131LFBN-RC
designator J?
CONN HDR 13POS 0.1 GOLD PCB; Manufacturer: Sullins; Connector Type: Header, Socket; Current Rating: 3A; Dielectric Material: Polyester; Number of Positions: 13; Pitch: 2.54mm; Supplier: DigiKey; Supplier Part Number: S7046-ND; Manufacturer Part Number: PPPC131LFBN-RC; RoHS: Compliant; Category: Card Edge Connectors; Stock: 10689; Pricing: 1=0.76, 10=0.644, 100=0.5471, 500=0.48828, 1000=0.46497, 5000=0.41506, 10000=0.40697 (USD); Color: Black; Contact Gender: Female; Contact Material: Bronze; Contact Plating: Gold; Height: 8.5mm; Housing Material: Plastic; Lead Free: Lead Free; Length: 33.5mm; Lifecycle Status: Production; Mounting Technology: Through Hole; Pins: 13; Number of Rows: 1; Packaging: Bulk; REACH SVHC: Yes; Terminal Pitch: 2.54mm; Termination: Solder; Width: 2.5mm; ComponentLink1URL: https://datasheet.octopart.com:443/PPPC131LFBN-RC-Sullins-datasheet-138810743.pdf?src-supplier=IHS; ComponentLink1Description: https://datasheet.octopart.com:443/PPPC131LFBN-RC-Sullins-datasheet-138810743.pdf?src-supplier=IHS
footprint CON_HDR_FEM_VERT_13P_2P54_PITCH
pins: 1, 2, 3, 4, 5, 6, 7, 8, 9, 10, 11, 12, 13

## PPPC141LFBN-RC
designator J?
CONN HDR 14POS 0.1 GOLD PCB; Manufacturer: Sullins; Connector Type: Header, Socket; Current Rating: 3A; Dielectric Material: Polyester; Number of Positions: 14; Pitch: 2.54mm; Supplier: DigiKey; Supplier Part Number: S7047-ND; Manufacturer Part Number: PPPC141LFBN-RC; RoHS: Compliant; Category: Card Edge Connectors; Stock: 9730; Pricing: 1=0.87, 10=0.737, 100=0.6264, 500=0.55906, 1000=0.53236, 5000=0.47523, 10000=0.4719 (USD); Color: Black; Contact Gender: Female; Contact Material: Bronze; Contact Plating: Gold; Height: 8.5mm; Housing Material: Plastic; Lead Free: Lead Free; Length: 36.1mm; Lifecycle Status: Production; Max Operating Temperature: 105°C; Min Operating Temperature: -40°C; Mounting Technology: Through Hole; Pins: 14; Number of Rows: 1; Packaging: Bulk; REACH SVHC: Yes; Terminal Pitch: 2.54mm; Termination: Solder; Width: 2.5mm; ComponentLink1URL: https://datasheet.octopart.com:443/PPPC141LFBN-RC-Sullins-datasheet-138810743.pdf?src-supplier=IHS; ComponentLink1Description: https://datasheet.octopart.com:443/PPPC141LFBN-RC-Sullins-datasheet-138810743.pdf?src-supplier=IHS; ComponentLink2URL: https://datasheet.octopart.com:443/PPPC141LFBN-RC-Sullins-datasheet-83216130.pdf?src-supplier=Upverter; ComponentLink2Description: https://datasheet.octopart.com:443/PPPC141LFBN-RC-Sullins-datasheet-83216130.pdf?src-supplier=Upverter; ComponentLink3URL: https://datasheet.octopart.com:443/PPPC141LFBN-RC-Sullins-datasheet-12463.pdf?src-supplier=Future+Electronics; ComponentLink3Description: https://datasheet.octopart.com:443/PPPC141LFBN-RC-Sullins-datasheet-12463.pdf?src-supplier=Future+Electronics; ComponentLink4URL: https://datasheet.octopart.com:443/PPPC141LFBN-RC-Sullins-datasheet-41308905.pdf?src-supplier=Future+Electronics; ComponentLink4Description: https://datasheet.octopart.com:443/PPPC141LFBN-RC-Sullins-datasheet-41308905.pdf?src-supplier=Future+Electronics; ComponentLink5URL: https://datasheet.octopart.com:443/PPPC141LFBN-RC-Sullins-datasheet-12511165.pdf?src-supplier=Future+Electronics; ComponentLink5Description: https://datasheet.octopart.com:443/PPPC141LFBN-RC-Sullins-datasheet-12511165.pdf?src-supplier=Future+Electronics
footprint CON_HDR_FEM_VERT_14P_2P54_PITCH
pins: 1, 2, 3, 4, 5, 6, 7, 8, 9, 10, 11, 12, 13, 14

## PPPC151LFBN-RC
designator J?
CONN HDR 15POS 0.1 GOLD PCB; Manufacturer: Sullins; Connector Type: Header, Socket; Current Rating: 3A; Dielectric Material: Polyester; Number of Positions: 15; Pitch: 2.54mm; Supplier: DigiKey; Supplier Part Number: S7048-ND; Manufacturer Part Number: PPPC151LFBN-RC; RoHS: Compliant; Category: Card Edge Connectors; Stock: 14510; Pricing: 1=0.85, 10=0.724, 100=0.615, 500=0.54894, 1000=0.52272, 5000=0.46662, 10000=0.46257 (USD); Color: Black; Contact Gender: Female; Contact Material: Bronze; Contact Plating: Gold; Height: 8.5mm; Housing Material: Plastic; Lead Free: Lead Free; Length: 38.6mm; Lifecycle Status: Production; Mounting Technology: Through Hole; Pins: 15; Number of Rows: 1; Packaging: Bulk; REACH SVHC: Yes; Terminal Pitch: 2.54mm; Termination: Solder; Width: 2.5mm; ComponentLink1URL: https://datasheet.octopart.com:443/PPPC151LFBN-RC-Sullins-datasheet-138810743.pdf?src-supplier=IHS; ComponentLink1Description: https://datasheet.octopart.com:443/PPPC151LFBN-RC-Sullins-datasheet-138810743.pdf?src-supplier=IHS
footprint CON_HDR_FEM_VERT_15P_2P54_PITCH
pins: 1, 2, 3, 4, 5, 6, 7, 8, 9, 10, 11, 12, 13, 14, 15

## PPPC161LFBN-RC
designator J?
CONN HDR 16POS 0.1 GOLD PCB; Manufacturer: Sullins; Connector Type: Header, Socket; Current Rating: 3A; Dielectric Material: Polyester; Number of Positions: 16; Pitch: 2.54mm; Supplier: DigiKey; Supplier Part Number: S7049-ND; Manufacturer Part Number: PPPC161LFBN-RC; RoHS: Compliant; Category: Card Edge Connectors; Stock: 9817; Pricing: 1=0.86, 10=0.729, 100=0.6194, 500=0.5528, 1000=0.52641, 5000=0.46991, 10000=0.46613 (USD); Color: Black; Contact Gender: Female; Contact Material: Bronze; Contact Plating: Gold; Height: 8.5mm; Housing Material: Plastic; Lead Free: Lead Free; Length: 41.1mm; Lifecycle Status: Production; Mounting Technology: Through Hole; Pins: 16; Number of Rows: 1; Packaging: Bulk; REACH SVHC: Yes; Terminal Pitch: 2.54mm; Termination: Solder; Width: 2.5mm; ComponentLink1URL: https://datasheet.octopart.com:443/PPPC161LFBN-RC-Sullins-datasheet-138810743.pdf?src-supplier=IHS; ComponentLink1Description: https://datasheet.octopart.com:443/PPPC161LFBN-RC-Sullins-datasheet-138810743.pdf?src-supplier=IHS; ComponentLink2URL: https://datasheet.octopart.com:443/PPPC161LFBN-RC-Sullins-datasheet-73726303.pdf?src-supplier=Future+Electronics; ComponentLink2Description: https://datasheet.octopart.com:443/PPPC161LFBN-RC-Sullins-datasheet-73726303.pdf?src-supplier=Future+Electronics; ComponentLink3URL: https://datasheet.octopart.com:443/PPPC161LFBN-RC-Sullins-datasheet-83216130.pdf?src-supplier=Future+Electronics; ComponentLink3Description: https://datasheet.octopart.com:443/PPPC161LFBN-RC-Sullins-datasheet-83216130.pdf?src-supplier=Future+Electronics; ComponentLink4URL: https://datasheet.octopart.com:443/PPPC161LFBN-RC-Sullins-datasheet-47864048.pdf?src-supplier=Future+Electronics; ComponentLink4Description: https://datasheet.octopart.com:443/PPPC161LFBN-RC-Sullins-datasheet-47864048.pdf?src-supplier=Future+Electronics
footprint CON_HDR_FEM_VERT_16P_2P54_PITCH
pins: 1, 2, 3, 4, 5, 6, 7, 8, 9, 10, 11, 12, 13, 14, 15, 16

## PPPC171LFBN-RC
designator J?
CONN HDR 17POS 0.1 GOLD PCB; Manufacturer: Sullins; Connector Type: Header, Socket; Current Rating: 3A; Dielectric Material: Polyester; Number of Positions: 17; Pitch: 2.54mm; Supplier: DigiKey; Supplier Part Number: S7050-ND; Manufacturer Part Number: PPPC171LFBN-RC; RoHS: Compliant; Category: Card Edge Connectors; Stock: 1799; Pricing: 1=0.98, 10=0.835, 100=0.7095, 500=0.63324, 1000=0.603, 5000=0.5408 (USD); Color: Black; Contact Gender: Female; Contact Material: Bronze; Contact Plating: Gold; Height: 8.5mm; Housing Material: Plastic; Lead Free: Lead Free; Length: 43.7mm; Lifecycle Status: Production; Mounting Technology: Through Hole; Pins: 17; Number of Rows: 1; Packaging: Bulk; REACH SVHC: Yes; Terminal Pitch: 2.54mm; Termination: Solder; Width: 2.5mm; ComponentLink1URL: https://datasheet.octopart.com:443/PPPC171LFBN-RC-Sullins-datasheet-138810743.pdf?src-supplier=IHS; ComponentLink1Description: https://datasheet.octopart.com:443/PPPC171LFBN-RC-Sullins-datasheet-138810743.pdf?src-supplier=IHS
footprint CON_HDR_FEM_VERT_17P_2P54_PITCH
pins: 1, 2, 3, 4, 5, 6, 7, 8, 9, 10, 11, 12, 13, 14, 15, 16, 17

## PPPC181LFBN-RC
designator J?
CONN HDR 18POS 0.1 GOLD PCB; Manufacturer: Sullins; Connector Type: Header, Socket; Current Rating: 3A; Dielectric Material: Polyester; Number of Positions: 18; Pitch: 2.54mm; Supplier: DigiKey; Supplier Part Number: S7051-ND; Manufacturer Part Number: PPPC181LFBN-RC; RoHS: Compliant; Category: Card Edge Connectors; Stock: 8325; Pricing: 1=1.03, 10=0.879, 100=0.7468, 500=0.66656, 1000=0.63474, 5000=0.572 (USD); Color: Black; Contact Gender: Female; Contact Material: Bronze; Contact Plating: Gold; Height: 8.5mm; Housing Material: Plastic; Lead Free: Lead Free; Length: 46.2mm; Lifecycle Status: Production; Mounting Technology: Through Hole; Pins: 18; Number of Rows: 1; Packaging: Bulk; REACH SVHC: Yes; Terminal Pitch: 2.54mm; Termination: Solder; Width: 2.5mm; ComponentLink1URL: https://datasheet.octopart.com:443/PPPC181LFBN-RC-Sullins-datasheet-138810743.pdf?src-supplier=IHS; ComponentLink1Description: https://datasheet.octopart.com:443/PPPC181LFBN-RC-Sullins-datasheet-138810743.pdf?src-supplier=IHS; ComponentLink2URL: https://datasheet.octopart.com:443/PPPC181LFBN-RC-Sullins-datasheet-83216130.pdf?src-supplier=Future+Electronics; ComponentLink2Description: https://datasheet.octopart.com:443/PPPC181LFBN-RC-Sullins-datasheet-83216130.pdf?src-supplier=Future+Electronics
footprint CON_HDR_FEM_VERT_18P_2P54_PITCH
pins: 1, 2, 3, 4, 5, 6, 7, 8, 9, 10, 11, 12, 13, 14, 15, 16, 17, 18

## PPPC201LFBN-RC
designator J?
CONN HDR 20POS 0.1 GOLD PCB; Manufacturer: Sullins; Connector Type: Header, Socket; Current Rating: 3A; Dielectric Material: Polyester; Number of Positions: 20; Pitch: 2.54mm; Supplier: DigiKey; Supplier Part Number: S7053-ND; Manufacturer Part Number: PPPC201LFBN-RC; RoHS: Compliant; Category: Card Edge Connectors; Stock: 7712; Pricing: 1=1.14, 10=0.968, 100=0.8225, 500=0.73412, 1000=0.69907, 5000=0.6357 (USD); Color: Black; Contact Gender: Female; Contact Material: Bronze; Contact Plating: Gold; Height: 8.5mm; Housing Material: Plastic; Lead Free: Lead Free; Length: 51.3mm; Lifecycle Status: Production; Mounting Technology: Through Hole; Pins: 20; Number of Rows: 1; Packaging: Bulk; REACH SVHC: Yes; Terminal Pitch: 2.54mm; Termination: Solder; Width: 2.5mm; ComponentLink1URL: https://datasheet.octopart.com:443/PPPC201LFBN-RC-Sullins-datasheet-138810743.pdf?src-supplier=IHS; ComponentLink1Description: https://datasheet.octopart.com:443/PPPC201LFBN-RC-Sullins-datasheet-138810743.pdf?src-supplier=IHS; ComponentLink2URL: https://datasheet.octopart.com:443/PPPC201LFBN-RC-Sullins-datasheet-12511165.pdf?src-supplier=Factory+Futures; ComponentLink2Description: https://datasheet.octopart.com:443/PPPC201LFBN-RC-Sullins-datasheet-12511165.pdf?src-supplier=Factory+Futures; ComponentLink3URL: https://datasheet.octopart.com:443/PPPC201LFBN-RC-Sullins-datasheet-41308905.pdf?src-supplier=Future+Electronics; ComponentLink3Description: https://datasheet.octopart.com:443/PPPC201LFBN-RC-Sullins-datasheet-41308905.pdf?src-supplier=Future+Electronics
footprint CON_HDR_FEM_VERT_20P_2P54_PITCH
pins: 1, 2, 3, 4, 5, 6, 7, 8, 9, 10, 11, 12, 13, 14, 15, 16, 17, 18, 19, 20

## PPPC221LFBN-RC
designator J?
CONN HDR 22POS 0.1 GOLD PCB; Manufacturer: Sullins; Connector Type: Header, Socket; Current Rating: 3A; Dielectric Material: Polyester; Number of Positions: 22; Pitch: 2.54mm; Supplier: DigiKey; Supplier Part Number: S7055-ND; Manufacturer Part Number: PPPC221LFBN-RC; RoHS: Compliant; Category: Card Edge Connectors; Stock: 1982; Pricing: 1=1.24, 10=1.056, 100=0.8975, 500=0.8011, 1000=0.76285, 5000=0.6994 (USD); Color: Black; Contact Gender: Female; Contact Material: Bronze; Contact Plating: Gold; Height: 8.5mm; Housing Material: Plastic; Lead Free: Lead Free; Length: 56.4mm; Lifecycle Status: Production; Mounting Technology: Through Hole; Pins: 22; Number of Rows: 1; Packaging: Bulk; REACH SVHC: Yes; Terminal Pitch: 2.54mm; Termination: Solder; Width: 2.5mm; ComponentLink1URL: https://datasheet.octopart.com:443/PPPC221LFBN-RC-Sullins-datasheet-138810743.pdf?src-supplier=IHS; ComponentLink1Description: https://datasheet.octopart.com:443/PPPC221LFBN-RC-Sullins-datasheet-138810743.pdf?src-supplier=IHS; ComponentLink2URL: https://datasheet.octopart.com:443/PPPC221LFBN-RC-Sullins-datasheet-47864048.pdf?src-supplier=Future+Electronics; ComponentLink2Description: https://datasheet.octopart.com:443/PPPC221LFBN-RC-Sullins-datasheet-47864048.pdf?src-supplier=Future+Electronics; ComponentLink3URL: https://datasheet.octopart.com:443/PPPC221LFBN-RC-Sullins-datasheet-12511165.pdf?src-supplier=Factory+Futures; ComponentLink3Description: https://datasheet.octopart.com:443/PPPC221LFBN-RC-Sullins-datasheet-12511165.pdf?src-supplier=Factory+Futures
footprint CON_HDR_FEM_VERT_22P_2P54_PITCH
pins: 1, 2, 3, 4, 5, 6, 7, 8, 9, 10, 11, 12, 13, 14, 15, 16, 17, 18, 19, 20, 21, 22

## SWR25X-NRTC-S02-ST-BA
designator J?
CONN HEADER VERT 2POS 2.54MM; Manufacturer: Sullins; Manufacturer Series: SWR25X; Connector Type: BOARD CONNECTOR; Contact Pattern: RECTANGULAR; Contact Resistance: 20mR; Contact Style: SQ PIN-SKT; Dielectric Withstanding Voltage (AC): 1kV; Insulation Resistance: 1GR; Number Of Connectors: 1; Polarization Key: POLARIZED HOUSING; Rated Current (Signal): 5A; Number of Contacts: 2; Body Breadth: 0.228inch; Body Depth: 0.449inch; Body Length: 0.202inch; Mating Contact Pitch: 0.1inch; Mounting Option 1: LOCKING; Reference Standard: UL; Reliability: COMMERCIAL; Supplier: Digikey; Supplier Part Number: S9407-ND; Manufacturer Part Number: SWR25X-NRTC-S02-ST-BA; RoHS: Yes; Category: Connectors; Stock: 21532; Pricing: 1=0.12, 10=0.093, 100=0.0686, 500=0.05678, 2000=0.04732, 6000=0.04259, 10000=0.04141 (USD); Mounting Technology: Board; Contact Material: Brass; Contact Finish - Mating: SN ON NI; Contact Finish - Termination: TIN OVER NICKEL; Insulation Color: Beige; Insulation Material: Nylon; Min Operating Temperature: -25°C; Max Operating Temperature: 85°C; Contact Gender: Male; Mounting Style: STRAIGHT; Number Of PCB Rows: 1; Number of Rows Loaded: 1; PCB Contact Pattern: RECTANGULAR; Termination: Solder; Terminal Length: 0.134inch; Terminal Pitch: 2.54mm; Reach SVHC Compliant: Yes; RoHS Compliant: Yes; ComponentLink1URL: https://datasheet.ciiva.com:443/pdfs/VipMasterIC/IC/SUCS/SUCSS00231/SUCSS00231-1.pdf?src-supplier=IHS+Markit; ComponentLink1Description: https://datasheet.ciiva.com:443/pdfs/VipMasterIC/IC/SUCS/SUCSS00231/SUCSS00231-1.pdf?src-supplier=IHS+Markit; ComponentLink2URL: https://datasheet.ciiva.com/740/swr25x-nrtc-sxx-st-ba-740720.pdf?src-supplier=Digikey; ComponentLink2Description: https://datasheet.ciiva.com/740/swr25x-nrtc-sxx-st-ba-740720.pdf?src-supplier=Digikey
footprint CON_SWR25X_2P_2P54_PITCH
pins: 1, 2

## SWR25X-NRTC-S03-ST-BA
designator J?
CONN HEADER VERT 3POS 2.54MM; Manufacturer: Sullins; Manufacturer Series: SWR25X; Connector Type: BOARD CONNECTOR; Contact Pattern: RECTANGULAR; Contact Resistance: 20mR; Contact Style: SQ PIN-SKT; Dielectric Withstanding Voltage (AC): 1kV; Insulation Resistance: 1GR; Number of Rows Loaded: 1; Polarization Key: POLARIZED HOUSING; Rated Current (Signal): 5A; Number of Contacts: 3; Body Breadth: 0.228inch; Body Depth: 0.449inch; Body Length: 0.302inch; Mating Contact Pitch: 0.1inch; Mounting Option 1: LOCKING; Reference Standard: UL; Reliability: COMMERCIAL; Supplier: Digikey; Supplier Part Number: S9411-ND; Manufacturer Part Number: SWR25X-NRTC-S03-ST-BA; RoHS: Yes; Category: Connectors; Stock: 27208; Pricing: 1=0.18, 10=0.139, 100=0.1029, 500=0.08518, 2000=0.07098, 6000=0.06388, 10000=0.06211 (USD); Mounting Technology: Board; Insulation Color: Beige; Insulation Material: Nylon; Contact Material: Brass; Contact Finish - Mating: SN ON NI; Contact Finish - Termination: TIN OVER NICKEL; Min Operating Temperature: -25°C; Max Operating Temperature: 85°C; Contact Gender: Male; Mounting Style: STRAIGHT; Number Of Connectors: 1; Number Of PCB Rows: 1; PCB Contact Pattern: RECTANGULAR; Termination: Solder; Terminal Length: 0.134inch; Terminal Pitch: 2.54mm; Reach SVHC Compliant: Yes; RoHS Compliant: Yes; ComponentLink1URL: https://datasheet.ciiva.com:443/pdfs/VipMasterIC/IC/SUCS/SUCSS00231/SUCSS00231-1.pdf?src-supplier=IHS+Markit; ComponentLink1Description: https://datasheet.ciiva.com:443/pdfs/VipMasterIC/IC/SUCS/SUCSS00231/SUCSS00231-1.pdf?src-supplier=IHS+Markit; ComponentLink2URL: https://datasheet.ciiva.com/740/swr25x-nrtc-sxx-st-ba-740721.pdf?src-supplier=Digikey; ComponentLink2Description: https://datasheet.ciiva.com/740/swr25x-nrtc-sxx-st-ba-740721.pdf?src-supplier=Digikey
footprint CON_SWR25X_3P_2P54_PITCH
pins: 1, 2, 3

## SWR25X-NRTC-S04-ST-BA
designator J?
CONN HEADER VERT 4POS 2.54MM; Manufacturer: Sullins; Manufacturer Series: SWR25X; Connector Type: BOARD CONNECTOR; Contact Pattern: RECTANGULAR; Contact Resistance: 20mR; Contact Style: SQ PIN-SKT; Dielectric Withstanding Voltage (AC): 1kV; Insulation Resistance: 1GR; Number of Rows Loaded: 1; Polarization Key: POLARIZED HOUSING; Rated Current (Signal): 5A; Number of Contacts: 4; Body Breadth: 0.228inch; Body Depth: 0.449inch; Body Length: 0.402inch; Mating Contact Pitch: 0.1inch; Mounting Option 1: LOCKING; Reference Standard: UL; Reliability: COMMERCIAL; Supplier: Digikey; Supplier Part Number: S9410-ND; Manufacturer Part Number: SWR25X-NRTC-S04-ST-BA; RoHS: Yes; Category: Connectors; Stock: 26691; Pricing: 1=0.19, 10=0.16, 100=0.123, 500=0.1041, 2000=0.08045, 6000=0.07571, 10000=0.06861 (USD); Mounting Technology: Board; Insulation Color: Beige; Insulation Material: Nylon; Contact Material: Brass; Contact Finish - Mating: SN ON NI; Contact Finish - Termination: TIN OVER NICKEL; Min Operating Temperature: -25°C; Max Operating Temperature: 85°C; Contact Gender: Male; Mounting Style: STRAIGHT; Number Of Connectors: 1; Number Of PCB Rows: 1; PCB Contact Pattern: RECTANGULAR; Termination: Solder; Terminal Length: 0.134inch; Terminal Pitch: 2.54mm; Reach SVHC Compliant: Yes; RoHS Compliant: Yes; ComponentLink1URL: https://datasheet.ciiva.com:443/pdfs/VipMasterIC/IC/SUCS/SUCSS00231/SUCSS00231-1.pdf?src-supplier=IHS+Markit; ComponentLink1Description: https://datasheet.ciiva.com:443/pdfs/VipMasterIC/IC/SUCS/SUCSS00231/SUCSS00231-1.pdf?src-supplier=IHS+Markit; ComponentLink2URL: https://datasheet.ciiva.com/740/swr25x-nrtc-sxx-st-ba-740722.pdf?src-supplier=Digikey; ComponentLink2Description: https://datasheet.ciiva.com/740/swr25x-nrtc-sxx-st-ba-740722.pdf?src-supplier=Digikey; ComponentLink3URL: https://datasheet.ciiva.com/16492/swr25x-nrtc-st-ba-16492075.pdf?src-supplier=Future+Electronics; ComponentLink3Description: https://datasheet.ciiva.com/16492/swr25x-nrtc-st-ba-16492075.pdf?src-supplier=Future+Electronics
footprint CON_SWR25X_4P_2P54_PITCH
pins: 1, 2, 3, 4

## SWR25X-NRTC-S06-ST-BA
designator J?
CONN HEADER VERT 6POS 2.54MM; Manufacturer: Sullins; Manufacturer Series: SWR25X; Connector Type: BOARD CONNECTOR; Contact Pattern: RECTANGULAR; Contact Resistance: 20mR; Contact Style: SQ PIN-SKT; Dielectric Withstanding Voltage (AC): 1kV; Insulation Resistance: 1GR; Number of Rows Loaded: 1; Polarization Key: POLARIZED HOUSING; Rated Current (Signal): 5A; Number of Contacts: 6; Body Breadth: 0.228inch; Body Depth: 0.449inch; Body Length: 0.602inch; Mating Contact Pitch: 0.1inch; Mounting Option 1: LOCKING; Reference Standard: UL; Reliability: COMMERCIAL; Supplier: Digikey; Supplier Part Number: S9414-ND; Manufacturer Part Number: SWR25X-NRTC-S06-ST-BA; RoHS: Yes; Category: Headers and Wire Housings; Stock: 8896; Pricing: 1=0.26, 10=0.224, 100=0.1739, 500=0.14906, 2000=0.11783, 6000=0.10647, 10000=0.1014 (USD); Mounting Technology: Board; Insulation Color: Beige; Insulation Material: Nylon; Contact Material: Brass; Contact Finish - Mating: SN ON NI; Contact Finish - Termination: TIN OVER NICKEL; Min Operating Temperature: -25°C; Max Operating Temperature: 85°C; Contact Gender: Male; Mounting Style: STRAIGHT; Number Of Connectors: 1; Number Of PCB Rows: 1; PCB Contact Pattern: RECTANGULAR; Termination: Solder; Terminal Length: 0.134inch; Terminal Pitch: 2.54mm; Reach SVHC Compliant: Yes; RoHS Compliant: Yes; ComponentLink1URL: https://datasheet.ciiva.com:443/pdfs/VipMasterIC/IC/SUCS/SUCSS00231/SUCSS00231-1.pdf?src-supplier=IHS+Markit; ComponentLink1Description: https://datasheet.ciiva.com:443/pdfs/VipMasterIC/IC/SUCS/SUCSS00231/SUCSS00231-1.pdf?src-supplier=IHS+Markit; ComponentLink2URL: https://datasheet.ciiva.com/740/swr25x-nrtc-sxx-st-ba-740724.pdf?src-supplier=Digikey; ComponentLink2Description: https://datasheet.ciiva.com/740/swr25x-nrtc-sxx-st-ba-740724.pdf?src-supplier=Digikey; ComponentLink3URL: https://datasheet.ciiva.com/16492/swr25x-nrtc-st-ba-16492093.pdf?src-supplier=Future+Electronics; ComponentLink3Description: https://datasheet.ciiva.com/16492/swr25x-nrtc-st-ba-16492093.pdf?src-supplier=Future+Electronics
footprint CON_SWR25X_6P_2P54_PITCH
pins: 1, 2, 3, 4, 5, 6